# EAGLE library part DAC8552 (library BW-Active)
2-channel SPI DAC
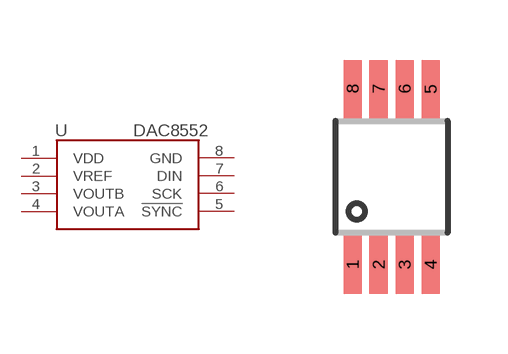
[diagram p13: symbol with the pads of MSOP8; footprint MSOP8]

Designator prefix U

## DAC8552  [MSOP8]
1  VDD  pwr
2  VREF
3  VOUTB
4  VOUTA
5  !SYNC
6  SCK
7  DIN
8  GND  pwr

## Footprint MSOP8 (pad centres in mm)
Micro Small Outline Package Grid .65mm
smd 0.45 x 1.45: 1 -0.975,-2.2; 2 -0.325,-2.2; 3 0.325,-2.2; 4 0.975,-2.2; 5 0.975,2.2; 6 0.325,2.2; 7 -0.325,2.2; 8 -0.975,2.2